# Altium footprint library HC49_THT.PcbLib: 1 footprints
Each footprint in its own frame and in the unit in brackets; x right, y up, seen from the top. Pads: shape width x height; smd on the part's side, far side on the other; paste and mask are expansions set on the pad; w line width, h text height; cw(c..) or ccw(c..) is an arc to the next point about the centre after c.
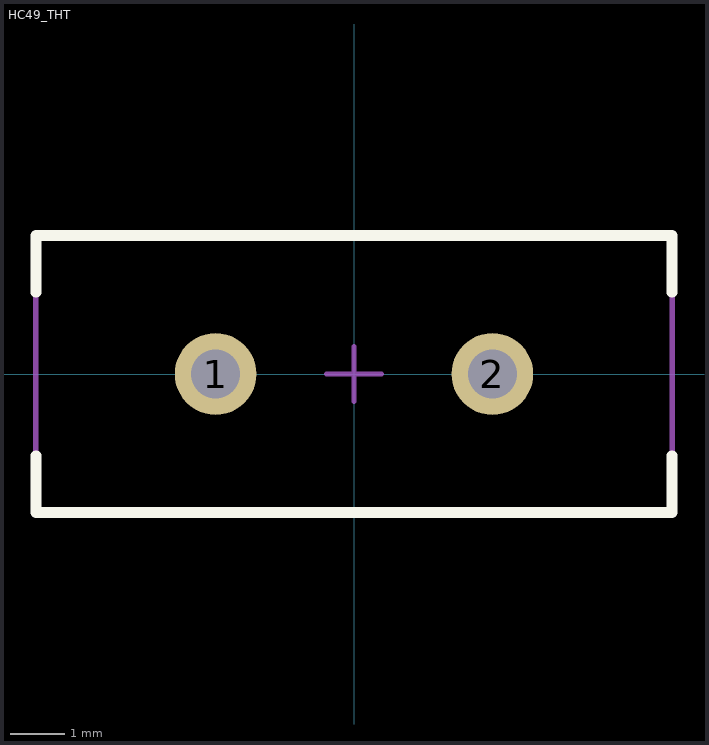
[diagram p0: the footprint, top view; thin cyan lines are the x and y axes]

## HC49_THT [mm] "HC49, 2-Leads, 200mil spacing"
height 4
pads (2):
  round 1.5 hole 0.9: 1(-2.54,0) 2(2.54,0)
Top Overlay:
  lines w0.2: -5.842,-1.5 -5.842,-2.54 5.842,-2.54 5.842,-1.5 ; -5.842,1.5 -5.842,2.54 5.842,2.54 5.842,1.5
Top Assembly:
  lines w0.1: -5.842,-2.54 -5.842,2.54 5.842,2.54 5.842,-2.54 -5.842,-2.54
Top Courtyard:
  lines w0.05: -5.842,-2.54 -5.842,2.54 5.842,2.54 5.842,-2.54 -5.842,-2.54
  lines w0.1: -0.5,0 0.5,0 ; 0,-0.5 0,0.5
3D body "User Library-HP49US.step": height 3.5, standoff -4, extent -5.675,-2.364 5.675,2.286